# Altium schematic symbol library LS7366R.SchLib: 1 symbol
Pins are listed as number, name and electrical type; pins without a type are passive.

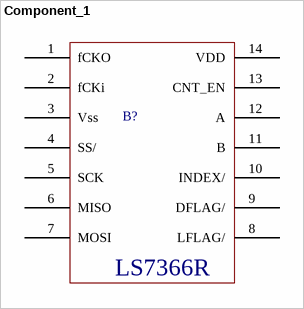
[diagram p0: symbol Component_1]

## Component_1
designator B?  (value not drawn)
pins: 1 fCKO, 2 fCKi, 3 Vss, 4 SS/, 5 SCK, 6 MISO, 7 MOSI, 8 LFLAG/, 9 DFLAG/, 10 INDEX/, 11 B, 12 A, 13 CNT_EN, 14 VDD
text: LS7366R